# EAGLE library part FLIR (library custom)
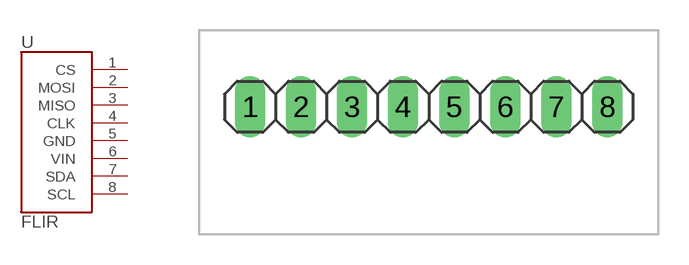
[diagram p3: symbol with the pads of 1X08; footprint 1X08]

Designator prefix -

## FLIR  [1X08]
1  CS
2  MOSI
3  MISO
4  CLK
5  GND
6  VIN
7  SDA
8  SCL

## Footprint 1X08 (pad centres in mm)
PIN HEADER
drill 1.016 long: 1 -8.89,0; 2 -6.35,0; 3 -3.81,0; 4 -1.27,0; 5 1.27,0; 6 3.81,0; 7 6.35,0; 8 8.89,0